# EAGLE library part MC9S12C32_562PIN (library Freescale)
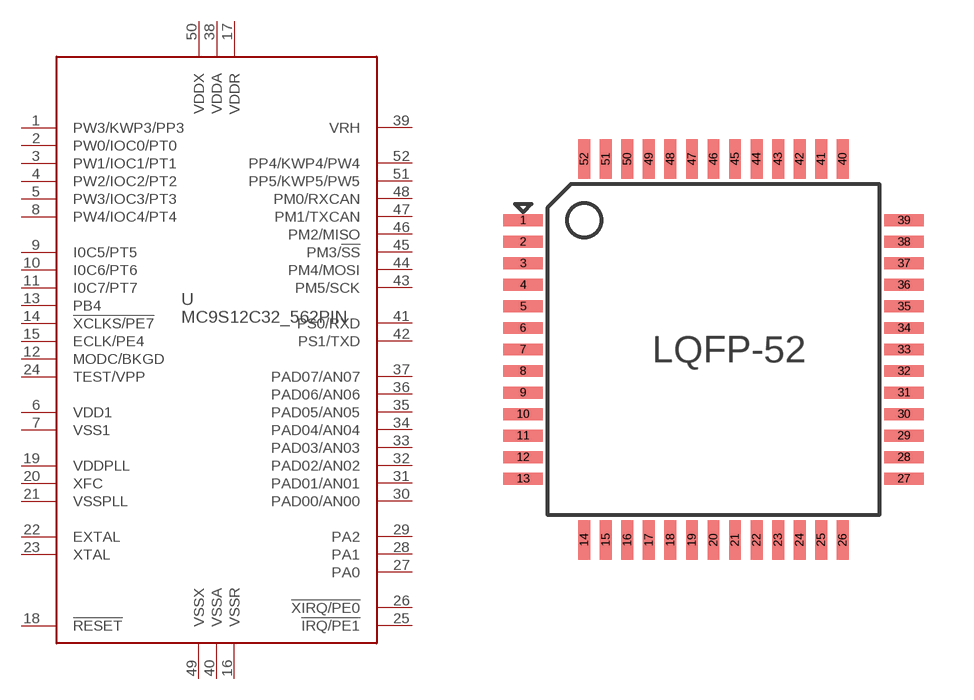
[diagram p3: symbol with the pads of LQFP-52; footprint LQFP-52]

Designator prefix -

## MC9S12C32_562PIN  [LQFP-52]
1  PW3/KWP3/PP3
2  PW0/IOC0/PT0
3  PW1/IOC1/PT1
4  PW2/IOC2/PT2
5  PW3/IOC3/PT3
6  VDD1
7  VSS1
8  PW4/IOC4/PT4
9  I0C5/PT5
10  I0C6/PT6
11  I0C7/PT7
12  MODC/BKGD
13  PB4
14  !XCLKS/PE7
15  ECLK/PE4
16  VSSR
17  VDDR
18  !RESET
19  VDDPLL
20  XFC
21  VSSPLL
22  EXTAL
23  XTAL
24  TEST/VPP
25  !IRQ/PE1
26  !XIRQ/PE0
27  PA0
28  PA1
29  PA2
30  PAD00/AN00
31  PAD01/AN01
32  PAD02/AN02
33  PAD03/AN03
34  PAD04/AN04
35  PAD05/AN05
36  PAD06/AN06
37  PAD07/AN07
38  VDDA
39  VRH
40  VSSA
41  PS0/RXD
42  PS1/TXD
43  PM5/SCK
44  PM4/MOSI
45  PM3/!SS
46  PM2/MISO
47  PM1/TXCAN
48  PM0/RXCAN
49  VSSX
50  VDDX
51  PP5/KWP5/PW5
52  PP4/KWP4/PW4

## Footprint LQFP-52 (pad centres in mm)
smd 1.2 x 0.36: 1 -5.75,3.9; 2 -5.75,3.25; 3 -5.75,2.6; 4 -5.75,1.95; 5 -5.75,1.3; 6 -5.75,0.65; 7 -5.75,0; 8 -5.75,-0.65; 9 -5.75,-1.3; 10 -5.75,-1.95; 11 -5.75,-2.6; 12 -5.75,-3.25; 13 -5.75,-3.9; 27 5.75,-3.9; 28 5.75,-3.25; 29 5.75,-2.6; 30 5.75,-1.95; 31 5.75,-1.3; 32 5.75,-0.65; 33 5.75,0; 34 5.75,0.65; 35 5.75,1.3; 36 5.75,1.95; 37 5.75,2.6; 38 5.75,3.25; 39 5.75,3.9
smd 0.36 x 1.2: 14 -3.9,-5.75; 15 -3.25,-5.75; 16 -2.6,-5.75; 17 -1.95,-5.75; 18 -1.3,-5.75; 19 -0.65,-5.75; 20 0,-5.75; 21 0.65,-5.75; 22 1.3,-5.75; 23 1.95,-5.75; 24 2.6,-5.75; 25 3.25,-5.75; 26 3.9,-5.75; 40 3.9,5.75; 41 3.25,5.75; 42 2.6,5.75; 43 1.95,5.75; 44 1.3,5.75; 45 0.65,5.75; 46 0,5.75; 47 -0.65,5.75; 48 -1.3,5.75; 49 -1.95,5.75; 50 -2.6,5.75; 51 -3.25,5.75; 52 -3.9,5.75